# EAGLE library part CHARLESPAX_LG12864L-FFDWH6V-TP (library PaxInstrument-T400)
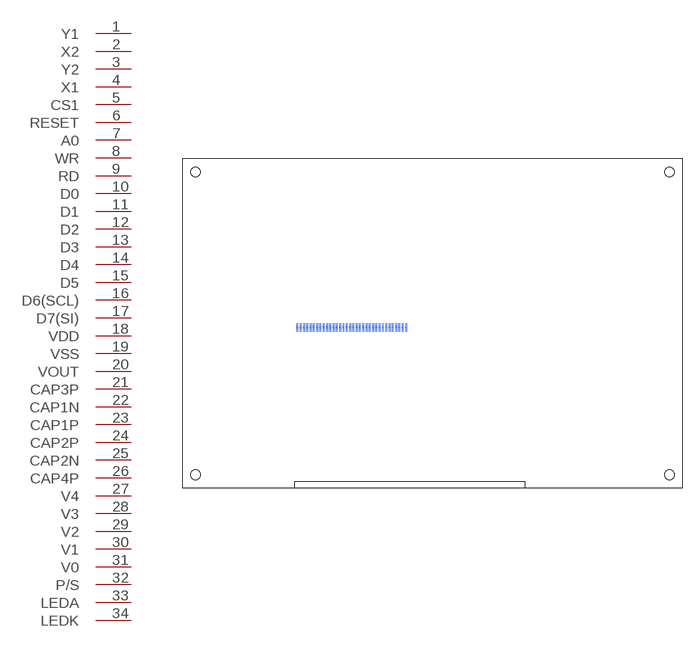
[diagram p7: symbol with the pads of CHARLESPAX_LG12864L-XXXWH6V-TP; footprint CHARLESPAX_LG12864L-XXXWH6V-TP]

Designator prefix -

## CHARLESPAX_LG12864L-FFDWH6V-TP  [CHARLESPAX_LG12864L-XXXWH6V-TP]
1  Y1
2  X2
3  Y2
4  X1
5  CS1
6  RESET
7  A0
8  WR
9  RD
10  D0
11  D1
12  D2
13  D3
14  D4
15  D5
16  D6(SCL)
17  D7(SI)
18  VDD
19  VSS
20  VOUT
21  CAP3P
22  CAP1N
23  CAP1P
24  CAP2P
25  CAP2N
26  CAP4P
27  V4
28  V3
29  V2
30  V1
31  V0
32  P/S
33  LEDA
34  LEDK

## Footprint CHARLESPAX_LG12864L-XXXWH6V-TP (pad centres in mm)
smd 0.3 x 1.3 bottom: 1 -4.02,-0.64; 2 -4.52,-0.64; 3 -5.02,-0.64; 4 -5.52,-0.64; 5 -6.02,-0.64; 6 -6.52,-0.64; 7 -7.02,-0.64; 8 -7.52,-0.64; 9 -8.02,-0.64; 10 -8.52,-0.64; 11 -9.02,-0.64; 12 -9.52,-0.64; 13 -10.02,-0.64; 14 -10.52,-0.64; 15 -11.02,-0.64; 16 -11.52,-0.64; 17 -12.02,-0.64; 18 -12.52,-0.64; 19 -13.02,-0.64; 20 -13.52,-0.64; 21 -14.02,-0.64; 22 -14.52,-0.64; 23 -15.02,-0.64; 24 -15.52,-0.64; 25 -16.02,-0.64; 26 -16.52,-0.64; 27 -17.02,-0.64; 28 -17.52,-0.64; 29 -18.02,-0.64; 30 -18.52,-0.64; 31 -19.02,-0.64; 32 -19.52,-0.64; 33 -20.02,-0.64; 34 -20.52,-0.64
hole 1.5 at -36,-23
hole 1.5 at 36,-23
hole 1.5 at 36,23
hole 1.5 at -36,23